# Altium schematic symbol library USB-TTL Converter.SchLib: 13 symbols
Pins are listed as number, name and electrical type; pins without a type are passive.

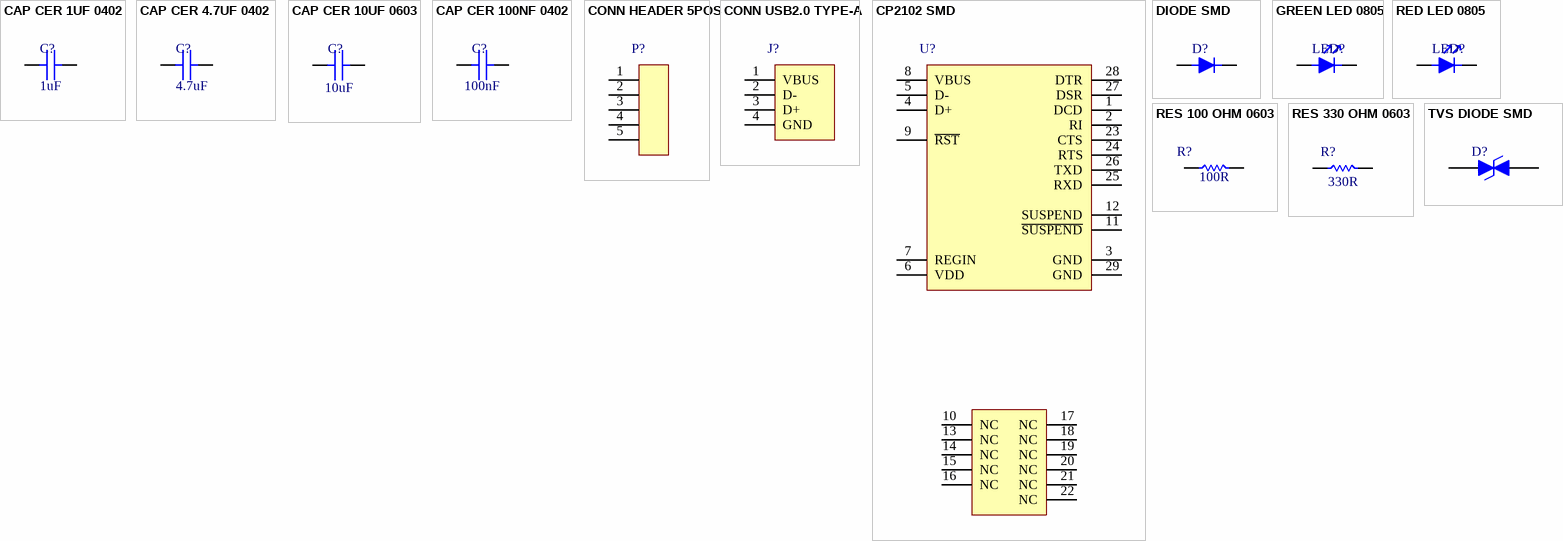
[diagram p0: symbols CAP CER 1UF 0402 to TVS DIODE SMD]

## CAP CER 1UF 0402
designator C?, comment value 1uF  (hidden comment: C0402X5R100-105MNE)
CAP CER 1UF 10V X5R 0402
footprint CAP 0402
pins: 1, 2

## CAP CER 4.7UF 0402
designator C?, comment value 4.7uF  (hidden comment: LMK105BBJ475MVLF)
CAP CER 4.7UF 10V X5R 0402
footprint CAP 0402
pins: 1, 2

## CAP CER 10UF 0603
designator C?, comment value 10uF  (hidden comment: CL10A106MP8NNNC)
CAP CER 10UF 10V X5R 0603
footprint CAP 0603
pins: 1, 2

## CAP CER 100NF 0402
designator C?, comment value 100nF  (hidden comment: C0402C104K4RACTU)
CAP CER 0.1UF 16V X7R 0402
footprint CAP 0402
pins: 1, 2

## CONN HEADER 5POS
designator P?, comment 61300511021  (value not drawn)
CONN HEADER R/A 5POS 2.54MM
footprint CONNECTOR
pins: 1, 2, 3, 4, 5

## CONN USB2.0 TYPE-A
designator J?, comment 629004113921  (value not drawn)
CONN USB2.0 TYPEA 4P SMD RA
footprint USB TYPE-A
pins: 1 VBUS, 2 D-, 3 D+, 4 GND

## CP2102 SMD
designator U?, comment CP2102-GM  (value not drawn)
IC USB-TO-UART BRIDGE 28VQFN
footprint QFN-28
pins: 1 DCD, 2 RI, 3 GND, 4 D+, 5 D-, 6 VDD, 7 REGIN, 8 VBUS, 9 ~{RST}, 10 NC, 11 ~{SUSPEND}, 12 SUSPEND, 13 NC, 14 NC, 15 NC, 16 NC, 17 NC, 18 NC, 19 NC, 20 NC, 21 NC, 22 NC, 23 CTS, 24 RTS, 25 RXD, 26 TXD, 27 DSR, 28 DTR, 29 GND

## DIODE SMD
designator D?, comment MBR230LSFT1G  (value not drawn)
DIODE SCHOTTKY 30V 2A
footprint SOD-123FL
pins: 1, 2

## GREEN LED 0805
designator LED?, comment 150080VS75000  (value not drawn)
LED GREEN 0805 SMD
footprint LED 0805
pins: 1, 2

## RED LED 0805
designator LED?, comment 150080VS75000  (value not drawn)
LED GREEN 0805 SMD
footprint LED 0805
pins: 1, 2

## RES 100 OHM 0603
designator R?, comment value 100R  (hidden comment: RC0603FR-7W100RL)
RES 100 OHM 1% 1/5W 0603
footprint RES 0603
pins: 1, 2

## RES 330 OHM 0603
designator R?, comment value 330R  (hidden comment: CRGH0603F330R)
RES 330 OHM 1% 1/5W 0603
footprint RES 0603
pins: 1, 2

## TVS DIODE SMD
designator D?, comment TPD1E10B06DPYR  (value not drawn)
TVS DIODE 5.5VWM 14VC 2X1SON
footprint TVS DIODE
pins: 1, 2